# EAGLE library part ADUM1251 (library analog-devices)
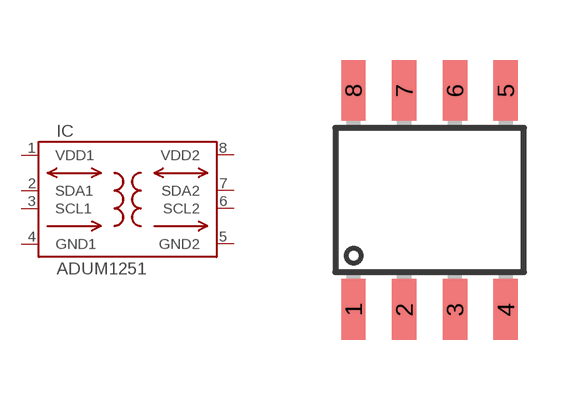
[diagram p152: symbol with the pads of SO8-COOL; footprint SO8-COOL]

Designator prefix IC

## ADUM1251  [SO8-COOL]
1  VDD1  sup
2  SDA1
3  SCL1
4  GND1  sup
5  GND2  sup
6  SCL2
7  SDA2
8  VDD2  sup

## Footprint SO8-COOL (pad centres in mm)
SMALL OUTLINE INTEGRATED CIRCUIT
smd 0.61 x 1.524: 1 -1.905,-2.743; 2 -0.635,-2.743; 3 0.635,-2.743; 4 1.905,-2.743; 5 1.905,2.743; 6 0.635,2.743; 7 -0.635,2.743; 8 -1.905,2.743